# EAGLE library part 53398-0810 (library con-molex-picoblade)
HEADER
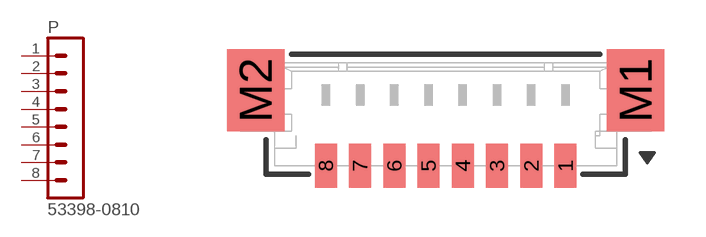
[diagram p22: symbol with the pads of 53398-0810; footprint 53398-0810]

Designator prefix P

## 53398-0810  [53398-0810]
1  1  pas
2  2  pas
3  3  pas
4  4  pas
5  5  pas
6  6  pas
7  7  pas
8  8  pas

## Footprint 53398-0810 (pad centres in mm)
HEADER
smd 0.8 x 1.6: 1 4.375,0; 2 3.125,0; 3 1.875,0; 4 0.625,0; 5 -0.625,0; 6 -1.875,0; 7 -3.125,0; 8 -4.375,0
smd 2.1 x 3: M1 6.935,2.75; M2 -6.935,2.75